# Altium schematic symbol library ADP1607.SchLib: 1 symbol
Pins are listed as number, name and electrical type; pins without a type are passive.

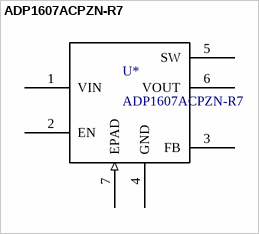
[diagram p0: symbol ADP1607ACPZN-R7]

## ADP1607ACPZN-R7
designator U*
pins: 1 VIN (power), 2 EN (power), 3 FB (power), 4 GND (power), 5 SW (power), 6 VOUT (power), 7 EPAD (in)